# Altium footprint library Trans.PcbLib: 2 footprints
Each footprint in its own frame and in the unit in brackets; x right, y up, seen from the top. Pads: shape width x height; smd on the part's side, far side on the other; paste and mask are expansions set on the pad; w line width, h text height; cw(c..) or ccw(c..) is an arc to the next point about the centre after c.
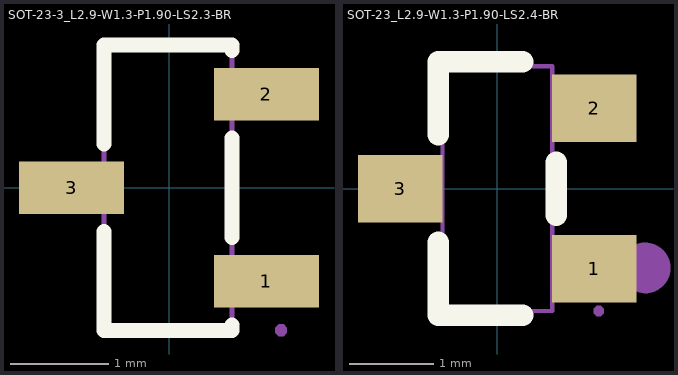
[diagram p0: the footprints below, top view; thin cyan lines are the x and y axes]

## SOT-23-3_L2.9-W1.3-P1.90-LS2.3-BR [mm]
pads (3):
  rect 1.07x0.532 smd: 1(0.99,-0.95) 2(0.99,0.95) 3(-0.99,0)
Top Overlay:
  lines w0.152: -0.66,-0.446 -0.66,-1.45 0.64,-1.45 0.64,-1.396 ; -0.66,0.446 -0.66,1.45 0.64,1.45 0.64,1.396 ; 0.64,-0.504 0.64,0.504
Mechanical 6:
  circle w0.2: c1.13,-1 r0.1
Mechanical 15:
  region: 1.2,-1.45 1.2,-1.475 1.165,-1.51 1.115,-1.51 1.08,-1.475 1.08,-1.45 1.08,-1.425 1.115,-1.39 1.165,-1.39 1.2,-1.425 1.2,-1.45
  region: -0.71,-0.2 -0.71,0.2 -1.16,0.2 -1.16,-0.2
  region: 0.69,0.75 0.69,1.15 1.14,1.15 1.14,0.75
  region: 0.69,-1.15 0.69,-0.75 1.14,-0.75 1.14,-1.15
  region: -0.73,0.2 -0.73,-0.2 -0.6,-0.2 -0.6,0.2
  region: 0.73,-1.15 0.73,-0.75 0.6,-0.75 0.6,-1.15
  region: 0.73,0.75 0.73,1.15 0.6,1.15 0.6,0.75
  lines w0.051: -0.66,-1.45 0.64,-1.45 0.64,1.45 -0.66,1.45 -0.66,-1.45
3D body "SS8050-HF.stp": height 1.15, standoff 0, extent -1.2,-1.45 1.2,1.45

## SOT-23_L2.9-W1.3-P1.90-LS2.4-BR [mm]
pads (3):
  rect 1x0.8 smd: 1(1.15,-0.95) 2(1.15,0.95) 3(-1.15,0)
Top Overlay:
  lines w0.254: -0.7,-0.636 -0.7,-1.5 0.3,-1.5 ; -0.7,0.636 -0.7,1.5 0.3,1.5 ; 0.7,-0.314 0.7,0.314
Mechanical 6:
  circle w0.3: c1.753,-0.94 r0.15
Mechanical 15:
  region: 1.26,-1.45 1.26,-1.475 1.225,-1.51 1.175,-1.51 1.14,-1.475 1.14,-1.45 1.14,-1.425 1.175,-1.39 1.225,-1.39 1.26,-1.425 1.26,-1.45
  region: 0.64,-1.15 0.64,-0.75 0.81,-0.75 0.81,-1.15
  region: 0.8,-1.15 0.8,-0.75 1.2,-0.75 1.2,-1.15
  region: 0.64,0.75 0.64,1.15 0.81,1.15 0.81,0.75
  region: 0.8,0.75 0.8,1.15 1.2,1.15 1.2,0.75
  region: -0.81,-0.2 -0.81,0.2 -0.64,0.2 -0.64,-0.2
  region: -1.2,-0.2 -1.2,0.2 -0.8,0.2 -0.8,-0.2
  lines w0.051: -0.65,-1.45 -0.65,1.45 0.65,1.45 0.65,-1.45 -0.65,-1.45
3D body "SI2302CDS-T1-GE3.stp": height 1.12, standoff 0, extent -1.185,-1.46 1.185,1.46